# Altium schematic symbol library M24128-BFMH6TG.SchLib: 1 symbol
Pins are listed as number, name and electrical type; pins without a type are passive.

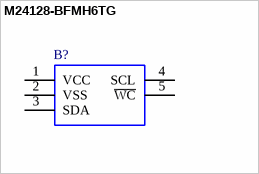
[diagram p0: symbol M24128-BFMH6TG]

## M24128-BFMH6TG
designator B?
STMICROELECTRONICS - M24128-BFMH6TG - EEPROM, 128 Kbit, 16K x 8bit, Serial I2C (2-Wire), 1 MHz, UFDFPN, 5 Pins; Geometry.Height: 0.6mm; Mouser Part Number: 511-M24128-BFMH6TG; Mouser Price/Stock: https://www.mouser.co.uk/ProductDetail/STMicroelectronics/M24128-BFMH6TG?qs=lGsJEpdjMw0B2vowlJSYsg%3D%3D; Manufacturer_Name: STMicroelectronics; Manufacturer_Part_Number: M24128-BFMH6TG; Datasheet Link: http://www.st.com/content/ccc/resource/technical/document/datasheet/59/05/c9/5b/7b/41/48/b6/CD00259167.pdf/files/CD00259167.pdf/jcr:content/translations/en.CD00259167.pdf
footprint M24128BFMH6TG
pins: 1 VCC, 2 VSS, 3 SDA, 4 SCL, 5 ~{WC}